# EAGLE library part ADAFRUIT-BNO080 (library X16-Pi-Shield)
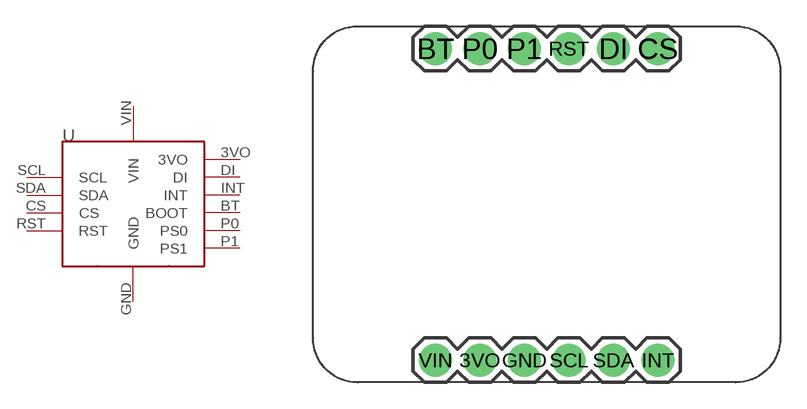
[diagram p12: symbol with the pads of ADAFRUIT-BNO080; footprint ADAFRUIT-BNO080]

Designator prefix -

## ADAFRUIT-BNO080  [ADAFRUIT-BNO080]
3VO  3VO  pwr
BT  BOOT
CS  CS
DI  DI
GND  GND  pwr
INT  INT  out
P0  PS0  in
P1  PS1  in
RST  RST  in
SCL  SCL
SDA  SDA
VIN  VIN  pwr

## Footprint ADAFRUIT-BNO080 (pad centres in mm)
drill 1.016 pad 1.88: 3VO -3.175,-8.89; BT -5.715,8.89; CS 6.985,8.89; DI 4.445,8.89; GND -0.635,-8.89; INT 6.985,-8.89; P0 -3.175,8.89; P1 -0.635,8.89; RST 1.905,8.89; SCL 1.905,-8.89; SDA 4.445,-8.89; VIN -5.715,-8.89